# EAGLE library part LM358 (library ls_403_signal_converter)
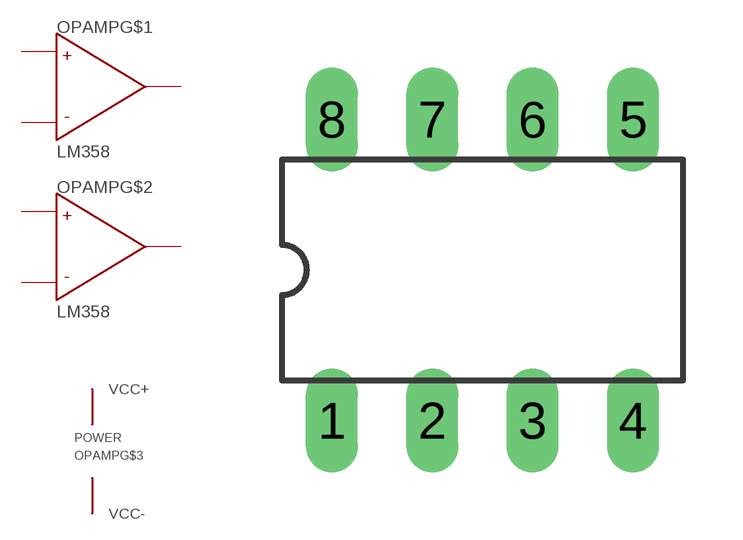
[diagram p2: symbol with the pads of DIL08; footprint DIL08]

Designator prefix OPAMP; gates G$1=LM358 G$2=LM358 G$3=2_PIN_PWR

## LM358  [DIL08]
1  G$1:OUT
2  G$1:INVERT
3  G$1:NON_INVERT
4  G$3:VCC-
5  G$2:NON_INVERT
6  G$2:INVERT
7  G$2:OUT
8  G$3:VCC+

## Footprint DIL08 (pad centres in mm)
Dual In Line
drill 0.813 long: 1 -3.81,-3.81; 2 -1.27,-3.81; 3 1.27,-3.81; 4 3.81,-3.81; 5 3.81,3.81; 6 1.27,3.81; 7 -1.27,3.81; 8 -3.81,3.81